# EAGLE library part 34696-0100 (library 34696-0100)
MOLEX - 34696-0100 - HEADER, STAC64, R/A, POL A, 10WAY Source: Datasheet <https://www.molex.com/pdm_docs/sd/346960100_sd.pdf>
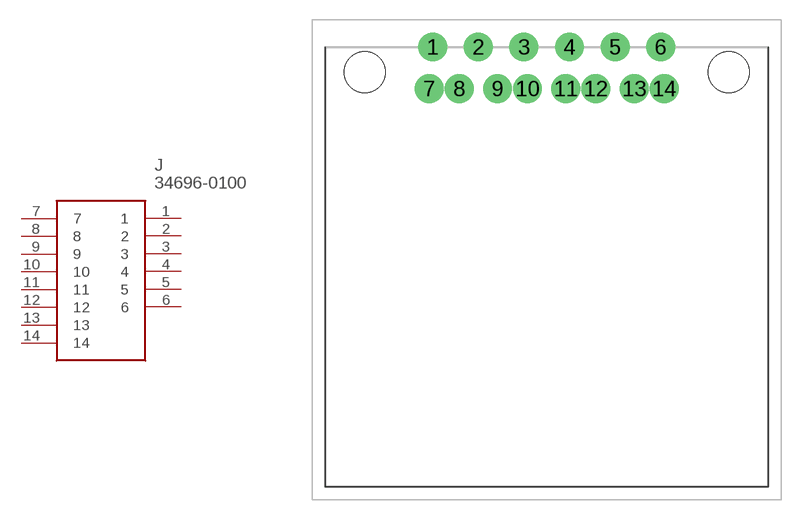
[diagram p0: symbol with the pads of 0346960100; footprint 0346960100]

Designator prefix J

## 34696-0100 (DESCRIPTION: MOLEX - 34696-0100 - HEADER, STAC64, R/A, POL A, 10WAY; HEIGHT: 22mm; MANUFACTURER_NAME: Molex; MANUFACTURER_PART_NUMBER: 34696-0100; MOUSER_PART_NUMBER: 538-34696-0100; MOUSER_PRICE-STOCK: https://www.mouser.co.uk/ProductDetail/Molex/34696-0100?qs=rg3U%2F5nEhHezA5W0iaWgsg%3D%3D)  [0346960100]
1  1
2  2
3  3
4  4
5  5
6  6
7  7
8  8
9  9
10  10
11  11
12  12
13  13
14  14

## Footprint 0346960100 (pad centres in mm)
34696-0100
drill 1.48 pad 2.22: 1 -8.731,0; 2 -5.231,0; 3 -1.731,0; 4 1.769,0; 5 5.269,0; 6 8.769,0
drill 1.48 pad 2.1: 7 -9.006,-3.2; 8 -6.706,-3.2; 9 -3.756,-3.2; 10 -1.456,-3.2; 11 1.494,-3.2; 12 3.794,-3.2; 13 6.744,-3.2; 14 9.044,-3.2
hole 3.13 at -13.951,-1.93
hole 3.13 at 13.989,-1.93